# Altium schematic symbol library SN74LVC1T45DCKR.SchLib: 1 symbol
Pins are listed as number, name and electrical type; pins without a type are passive.

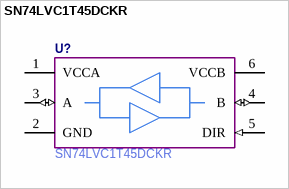
[diagram p0: symbol SN74LVC1T45DCKR]

## SN74LVC1T45DCKR
designator U?  Manufacturer Part Number: SN74LVC1T45DCKR  (hidden comment: *)
Single-Bit Dual-Supply Bus Transceiver with Configurable Voltage Translation and 3-State Outputs
pins: 1 VCCA (power), 2 GND (power), 3 A (io), 4 B (io), 5 DIR (in), 6 VCCB (power)